# Altium footprint library VY1222M47Y5UQ6TV0.PcbLib: 1 footprints
Each footprint in its own frame and in the unit in brackets; x right, y up, seen from the top. Pads: shape width x height; smd on the part's side, far side on the other; paste and mask are expansions set on the pad; w line width, h text height; cw(c..) or ccw(c..) is an arc to the next point about the centre after c.
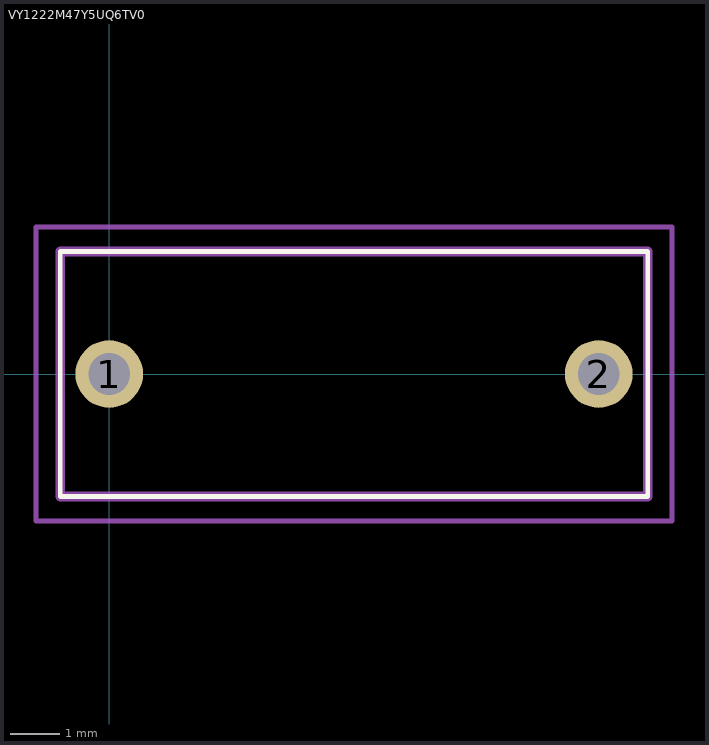
[diagram p0: the footprint, top view; thin cyan lines are the x and y axes]

## VY1222M47Y5UQ6TV0 [mm]
pads (2):
  round 1.381 hole 0.85: 1(0,0) 2(10,0)
Top Overlay:
  lines w0.1: -1,-2.5 11,-2.5 11,2.5 -1,2.5 -1,-2.5
Mechanical 15:
  lines w0.2: -1,-2.5 11,-2.5 11,2.5 -1,2.5 -1,-2.5
Mechanical 20:
  lines w0.1: -1.5,-3 11.5,-3 11.5,3 -1.5,3 -1.5,-3